# EAGLE library part DS1339 (library borkedlabs-clock)
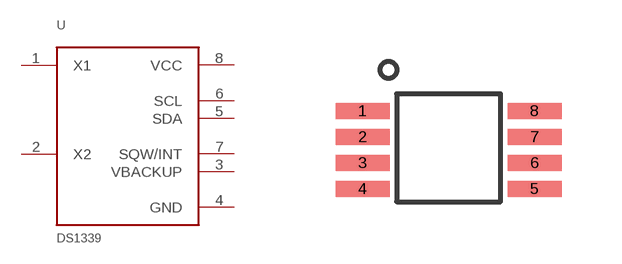
[diagram p1: symbol with the pads of 8-USOP; footprint 8-USOP]

Designator prefix U

## DS1339  [8-USOP]
1  X1
2  X2
3  VBACKUP
4  GND
5  SDA
6  SCL
7  SQW/INT
8  VCC

## Footprint 8-USOP (pad centres in mm)
smd 1.35 x 0.4: 1 -2.15,0.975; 2 -2.15,0.325; 3 -2.15,-0.325; 4 -2.15,-0.975; 5 2.15,-0.975; 6 2.15,-0.325; 7 2.15,0.325; 8 2.15,0.975